# EAGLE library part KK396_VERT_15PIN (library molex)
KK® 396 Header, Vertical, without Peg, 15 Circuits, Gold (Au) Plating Part Number: 26-61-2150 Datasheet <http://www.molex.com/pdm_docs/sd/026612150_sd.pdf> Information <http://www.molex.com/molex/products/datasheet.jsp?part=active/0026612150_PCB_HEADERS.xml> Created by Ben Hurwitz, 10 March 2016
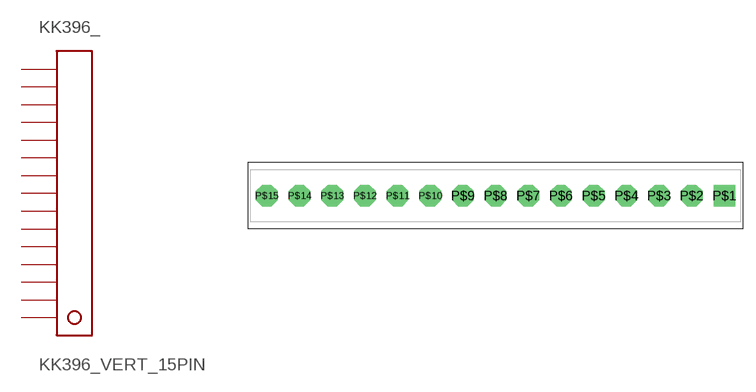
[diagram p7: symbol with the pads of KK396_VERT_15PIN; footprint KK396_VERT_15PIN]

Designator prefix KK396_

## KK396_VERT_15PIN  [KK396_VERT_15PIN]
P$1  P$1
P$2  P$2
P$3  P$3
P$4  P$4
P$5  P$5
P$6  P$6
P$7  P$7
P$8  P$8
P$9  P$9
P$10  P$10
P$11  P$11
P$12  P$12
P$13  P$13
P$14  P$14
P$15  P$15

## Footprint KK396_VERT_15PIN (pad centres in mm)
drill 1.75 square: P$1 27.735,0
drill 1.75 octagon: P$2 23.775,0; P$3 19.815,0; P$4 15.855,0; P$5 11.895,0; P$6 7.935,0; P$7 3.975,0; P$8 0.015,0; P$9 -3.945,0; P$10 -7.905,0; P$11 -11.865,0; P$12 -15.825,0; P$13 -19.785,0; P$14 -23.745,0; P$15 -27.705,0